# EAGLE library part PANASONIC (library Relais TX-S - 2 x Wechsler)
Name des Bauteiles:Relais für Prüfmittelbau "Panasonic TX-S" Daten: 24 VDC; 2- Schließer Artikelnummer:#030078 Datenblatt:
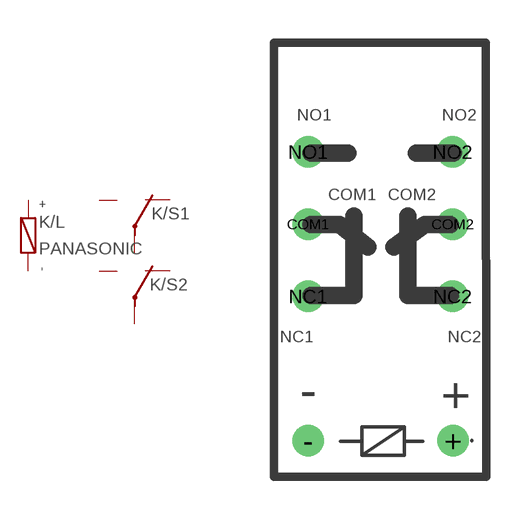
[diagram p0: symbol with the pads of TX-S; footprint TX-S]

Designator prefix K; gates /S1=1_WECHSLER /S2=2_WECHSLER /L=SPULE

## PANASONIC-TXS224J  [TX-S]
+  /L:+
-  /L:-
COM1  /S1:COM1
COM2  /S2:COM2
NC1  /S1:NC1
NC2  /S2:NC2
NO1  /S1:NO1
NO2  /S2:NO2

## Footprint TX-S (pad centres in mm)
Wichtiger Hinweis! Polung beachten !!!
drill 0.6: + 2.56,-6.35; - -2.54,-6.35; COM1 -2.54,1.27; COM2 2.54,1.27; NC1 -2.54,-1.27; NC2 2.54,-1.27; NO1 -2.54,3.81; NO2 2.54,3.81